# Altium integrated library Capacitor - Aluminium TH.IntLib: 4591 symbols (part 48 of 68)
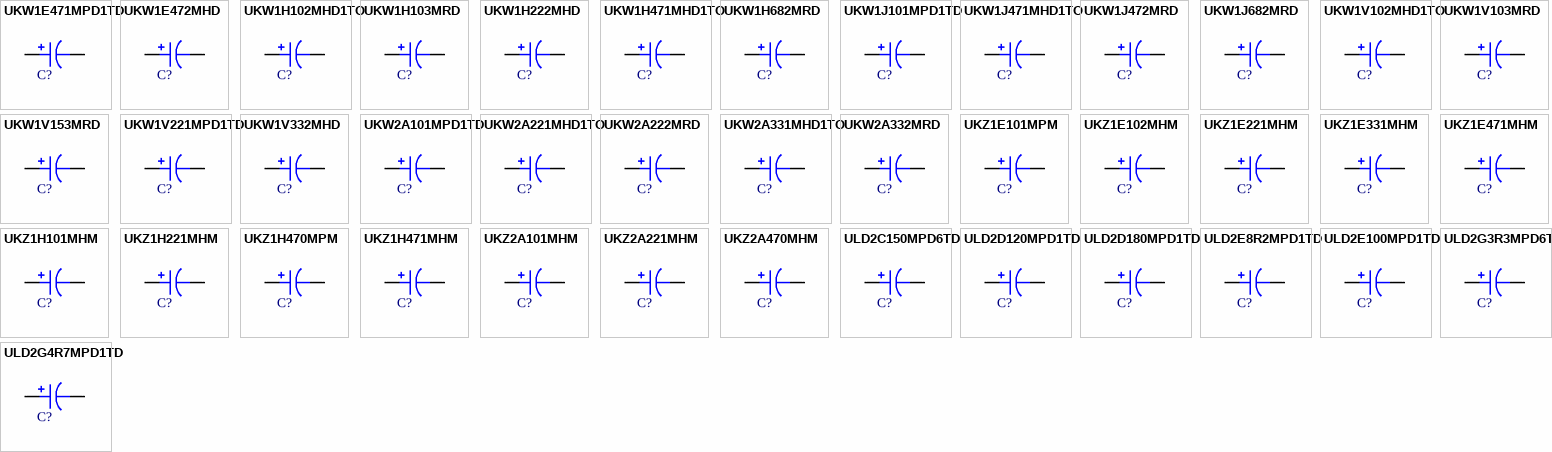
[diagram p161: symbols UKW1E471MPD1TD to ULD2G4R7MPD1TD]

## ULD2D180MPD1TD
designator C?, comment 18uF  (value not drawn)
CAP ALUM 18UF 20% 200V RADIAL; Part Number: ULD2D180MPD1TD; Manufacturer: Nichicon; TemperatureRange: -40C ~ 105C; Type: Polar; Ripple Current: 113mA @ 120Hz; Value: 18uF; PartId: 24674; Supplier 1: Digi-Key; Supplier Part Number 1: 493-13863-3-ND; ComponentLink1Description: Datasheet; ComponentLink1URL: http://nichicon-us.com/english/products/pdfs/e-uld.pdf; ComponentLink2Description: Digi-Key Listing; ComponentLink2URL: https://www.digikey.com/product-detail/en/nichicon/ULD2D180MPD1TD/493-13863-3-ND/4695189; Tolerance: 20%; Voltage: 200V; Price: 0.3108; Device Package: Radial, Can, 10mm
footprint CAP AL TH D10 L5 H14.5
pins: 1, 2

## ULD2E8R2MPD1TD
designator C?, comment 8.2uF  (value not drawn)
CAP ALUM 8.2UF 20% 250V RADIAL; Part Number: ULD2E8R2MPD1TD; Manufacturer: Nichicon; TemperatureRange: -40C ~ 105C; Type: Polar; Ripple Current: 76mA @ 120Hz; Value: 8.2uF; PartId: 24488; Supplier 1: Digi-Key; Supplier Part Number 1: 493-13871-1-ND; ComponentLink1Description: Datasheet; ComponentLink1URL: http://nichicon-us.com/english/products/pdfs/e-uld.pdf; ComponentLink2Description: Digi-Key Listing; ComponentLink2URL: https://www.digikey.com/product-detail/en/nichicon/ULD2E8R2MPD1TD/493-13871-1-ND/4695244; Tolerance: 20%; Voltage: 250V; Price: 0.78; Device Package: Radial, Can, 10mm
footprint CAP AL TH D10 L5 H12.5
pins: 1, 2

## ULD2E100MPD1TD
designator C?, comment 10uF  (value not drawn)
CAP ALUM 10UF 20% 250V RADIAL; Part Number: ULD2E100MPD1TD; Manufacturer: Nichicon; TemperatureRange: -40C ~ 105C; Type: Polar; Ripple Current: 90mA @ 120Hz; Value: 10uF; PartId: 24668; Supplier 1: Digi-Key; Supplier Part Number 1: 493-13872-3-ND; ComponentLink1Description: Datasheet; ComponentLink1URL: http://nichicon-us.com/english/products/pdfs/e-uld.pdf; ComponentLink2Description: Digi-Key Listing; ComponentLink2URL: https://www.digikey.com/product-detail/en/nichicon/ULD2E100MPD1TD/493-13872-3-ND/4695216; Tolerance: 20%; Voltage: 250V; Price: 0.2848; Device Package: Radial, Can, 10mm
footprint CAP AL TH D10 L5 H14.5
pins: 1, 2

## ULD2G3R3MPD6TD
designator C?, comment 3.3uF  (value not drawn)
CAP ALUM 3.3UF 20% 400V RADIAL; Part Number: ULD2G3R3MPD6TD; Manufacturer: Nichicon; TemperatureRange: -40C ~ 105C; Type: Polar; Ripple Current: 48mA @ 120Hz; Value: 3.3uF; PartId: 24448; Supplier 1: Digi-Key; Supplier Part Number 1: 493-13900-3-ND; ComponentLink1Description: Datasheet; ComponentLink1URL: http://nichicon-us.com/english/products/pdfs/e-uld.pdf; ComponentLink2Description: Digi-Key Listing; ComponentLink2URL: https://www.digikey.com/product-detail/en/nichicon/ULD2G3R3MPD6TD/493-13900-3-ND/4695273; Tolerance: 20%; Voltage: 400V; Price: 0.2646; Device Package: Radial, Can, 10mm
footprint CAP AL TH D10 L5 H12.5
pins: 1, 2

## ULD2G4R7MPD1TD
designator C?, comment 4.7uF  (value not drawn)
CAP ALUM 4.7UF 20% 400V RADIAL; Part Number: ULD2G4R7MPD1TD; Manufacturer: Nichicon; TemperatureRange: -40C ~ 105C; Type: Polar; Ripple Current: 61mA @ 120Hz; Value: 4.7uF; PartId: 24681; Supplier 1: Digi-Key; Supplier Part Number 1: 493-13883-3-ND; ComponentLink1Description: Datasheet; ComponentLink1URL: http://nichicon-us.com/english/products/pdfs/e-uld.pdf; ComponentLink2Description: Digi-Key Listing; ComponentLink2URL: https://www.digikey.com/product-detail/en/nichicon/ULD2G4R7MPD1TD/493-13883-3-ND/4695279; Tolerance: 20%; Voltage: 400V; Price: 0.3296; Device Package: Radial, Can, 10mm
footprint CAP AL TH D10 L5 H14.5
pins: 1, 2

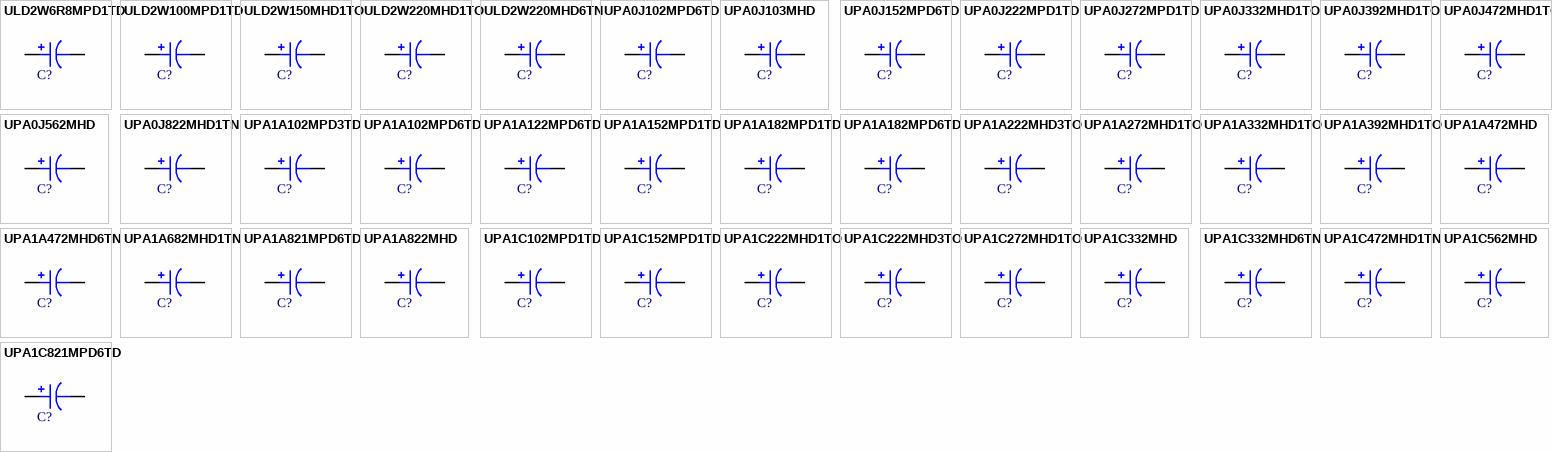
[diagram p79: symbols ULD2W6R8MPD1TD to UPA1C821MPD6TD]

## ULD2W6R8MPD1TD
designator C?, comment 6.8uF  (value not drawn)
CAP ALUM 6.8UF 20% 450V RADIAL; Part Number: ULD2W6R8MPD1TD; Manufacturer: Nichicon; TemperatureRange: -25C ~ 105C; Type: Polar; Ripple Current: 62mA @ 120Hz; Value: 6.8uF; PartId: 25484; Supplier 1: Digi-Key; Supplier Part Number 1: 493-13888-3-ND; ComponentLink1Description: Datasheet; ComponentLink1URL: http://nichicon-us.com/english/products/pdfs/e-uld.pdf; ComponentLink2Description: Digi-Key Listing; ComponentLink2URL: https://www.digikey.com/product-detail/en/nichicon/ULD2W6R8MPD1TD/493-13888-3-ND/4695318; Tolerance: 20%; Voltage: 450V; Price: 0.3364; Device Package: Radial, Can, 10mm
footprint CAP AL TH D10 L5 H22
pins: 1, 2

## ULD2W100MPD1TD
designator C?, comment 10uF  (value not drawn)
CAP ALUM 10UF 20% 450V RADIAL; Part Number: ULD2W100MPD1TD; Manufacturer: Nichicon; TemperatureRange: -25C ~ 105C; Type: Polar; Ripple Current: 92mA @ 120Hz; Value: 10uF; PartId: 25837; Supplier 1: Digi-Key; Supplier Part Number 1: 493-13890-3-ND; ComponentLink1Description: Datasheet; ComponentLink1URL: http://nichicon-us.com/english/products/pdfs/e-uld.pdf; ComponentLink2Description: Digi-Key Listing; ComponentLink2URL: https://www.digikey.com/product-detail/en/nichicon/ULD2W100MPD1TD/493-13890-3-ND/4695291; Tolerance: 20%; Voltage: 450V; Price: 0.4431; Device Package: Radial, Can, 10mm
footprint CAP AL TH D10 L5 H22
pins: 1, 2

## ULD2W150MHD1TO
designator C?, comment 15uF  (value not drawn)
CAP ALUM 15UF 20% 450V RADIAL; Part Number: ULD2W150MHD1TO; Manufacturer: Nichicon; TemperatureRange: -25C ~ 105C; Type: Polar; Ripple Current: 140mA @ 120Hz; Value: 15uF; PartId: 23508; Supplier 1: Digi-Key; Supplier Part Number 1: 493-13894-1-ND; ComponentLink1Description: Datasheet; ComponentLink1URL: http://nichicon-us.com/english/products/pdfs/e-uld.pdf; ComponentLink2Description: Digi-Key Listing; ComponentLink2URL: https://www.digikey.com/product-detail/en/nichicon/ULD2W150MHD1TO/493-13894-1-ND/4695295; Tolerance: 20%; Voltage: 450V; Price: 1.49; Device Package: Radial, Can, 12.5mm
footprint CAP AL TH D12.5 L5 H22
pins: 1, 2

## ULD2W220MHD1TO
designator C?, comment 22uF  (value not drawn)
CAP ALUM 22UF 20% 450V RADIAL; Part Number: ULD2W220MHD1TO; Manufacturer: Nichicon; TemperatureRange: -25C ~ 105C; Type: Polar; Ripple Current: 240mA @ 120Hz; Value: 22uF; PartId: 24175; Supplier 1: Digi-Key; Supplier Part Number 1: 493-13895-1-ND; ComponentLink1Description: Datasheet; ComponentLink1URL: http://nichicon-us.com/english/products/pdfs/e-uld.pdf; ComponentLink2Description: Digi-Key Listing; ComponentLink2URL: https://www.digikey.com/product-detail/en/nichicon/ULD2W220MHD1TO/493-13895-1-ND/4695298; Tolerance: 20%; Voltage: 450V; Price: 1.89; Device Package: Radial, Can, 12.5mm
footprint CAP AL TH D12.5 L5 H27
pins: 1, 2

## ULD2W220MHD6TN
designator C?, comment 22uF  (value not drawn)
CAP ALUM 22UF 20% 450V RADIAL; Part Number: ULD2W220MHD6TN; Manufacturer: Nichicon; TemperatureRange: -25C ~ 105C; Type: Polar; Ripple Current: 292mA @ 120Hz; Value: 22uF; PartId: 26407; Supplier 1: Digi-Key; Supplier Part Number 1: 493-13901-3-ND; ComponentLink1Description: Datasheet; ComponentLink1URL: http://nichicon-us.com/english/products/pdfs/e-uld.pdf; ComponentLink2Description: Digi-Key Listing; ComponentLink2URL: https://www.digikey.com/product-detail/en/nichicon/ULD2W220MHD6TN/493-13901-3-ND/4695300; Tolerance: 20%; Voltage: 450V; Price: 1.0036; Device Package: Radial, Can, 16mm
footprint CAP AL TH D16 L7.5 H22
pins: 1, 2

## UPA0J102MPD6TD
designator C?, comment 1000uF  (value not drawn)
CAP ALUM 1000UF 20% 6.3V RADIAL; Part Number: UPA0J102MPD6TD; Manufacturer: Nichicon; TemperatureRange: -55C ~ 105C; Type: Polar; Ripple Current: 675mA @ 120Hz; Impedance: 63 mOhm; Value: 1000uF; PartId: 24657; Supplier 1: Digi-Key; Supplier Part Number 1: 493-4845-3-ND; ComponentLink1Description: Datasheet; ComponentLink1URL: http://nichicon-us.com/english/products/pdfs/e-upa.pdf; ComponentLink2Description: Digi-Key Listing; ComponentLink2URL: https://www.digikey.com/product-detail/en/nichicon/UPA0J102MPD6TD/493-4845-3-ND/3129850; Tolerance: 20%; Voltage: 6.3V; Price: 0.2578; Device Package: Radial, Can, 10mm
footprint CAP AL TH D10 L5 H14.5
pins: 1, 2

## UPA0J103MHD
designator C?, comment 10000uF  (value not drawn)
CAP ALUM 10000UF 20% 6.3V RADIAL; Part Number: UPA0J103MHD; Manufacturer: Nichicon; TemperatureRange: -55C ~ 105C; Type: Polar; Ripple Current: 2.389A @ 120Hz; Impedance: 17 mOhm; Value: 10000uF; PartId: 27217; Supplier 1: Digi-Key; Supplier Part Number 1: 493-5424-ND; ComponentLink1Description: Datasheet; ComponentLink1URL: http://nichicon-us.com/english/products/pdfs/e-upa.pdf; ComponentLink2Description: Digi-Key Listing; ComponentLink2URL: https://www.digikey.com/product-detail/en/nichicon/UPA0J103MHD/493-5424-ND/3130429; Tolerance: 20%; Voltage: 6.3V; Price: 2.31; Device Package: Radial, Can, 16mm
footprint CAP AL TH D16 L7.5 H33.5
pins: 1, 2

## UPA0J152MPD6TD
designator C?, comment 1500uF  (value not drawn)
CAP ALUM 1500UF 20% 6.3V RADIAL; Part Number: UPA0J152MPD6TD; Manufacturer: Nichicon; TemperatureRange: -55C ~ 105C; Type: Polar; Ripple Current: 1.054A @ 120Hz; Impedance: 49 mOhm; Value: 1500uF; PartId: 25128; Supplier 1: Digi-Key; Supplier Part Number 1: 493-4851-3-ND; ComponentLink1Description: Datasheet; ComponentLink1URL: http://nichicon-us.com/english/products/pdfs/e-upa.pdf; ComponentLink2Description: Digi-Key Listing; ComponentLink2URL: https://www.digikey.com/product-detail/en/nichicon/UPA0J152MPD6TD/493-4851-3-ND/3129856; Tolerance: 20%; Voltage: 6.3V; Price: 0.3423; Device Package: Radial, Can, 10mm
footprint CAP AL TH D10 L5 H17.5
pins: 1, 2

## UPA0J222MPD1TD
designator C?, comment 2200uF  (value not drawn)
CAP ALUM 2200UF 20% 6.3V RADIAL; Part Number: UPA0J222MPD1TD; Manufacturer: Nichicon; TemperatureRange: -55C ~ 105C; Type: Polar; Ripple Current: 1.267A @ 120Hz; Impedance: 35 mOhm; Value: 2200uF; PartId: 25833; Supplier 1: Digi-Key; Supplier Part Number 1: 493-4852-3-ND; ComponentLink1Description: Datasheet; ComponentLink1URL: http://nichicon-us.com/english/products/pdfs/e-upa.pdf; ComponentLink2Description: Digi-Key Listing; ComponentLink2URL: https://www.digikey.com/product-detail/en/nichicon/UPA0J222MPD1TD/493-4852-3-ND/3129857; Tolerance: 20%; Voltage: 6.3V; Price: 0.4017; Device Package: Radial, Can, 10mm
footprint CAP AL TH D10 L5 H22
pins: 1, 2

## UPA0J272MPD1TD
designator C?, comment 2700uF  (value not drawn)
CAP ALUM 2700UF 20% 6.3V RADIAL; Part Number: UPA0J272MPD1TD; Manufacturer: Nichicon; TemperatureRange: -55C ~ 105C; Type: Polar; Ripple Current: 1.428A @ 120Hz; Impedance: 33 mOhm; Value: 2700uF; PartId: 26025; Supplier 1: Digi-Key; Supplier Part Number 1: 493-4854-3-ND; ComponentLink1Description: Datasheet; ComponentLink1URL: http://nichicon-us.com/english/products/pdfs/e-upa.pdf; ComponentLink2Description: Digi-Key Listing; ComponentLink2URL: https://www.digikey.com/product-detail/en/nichicon/UPA0J272MPD1TD/493-4854-3-ND/3129859; Tolerance: 20%; Voltage: 6.3V; Price: 0.4017; Device Package: Radial, Can, 10mm
footprint CAP AL TH D10 L5 H30
pins: 1, 2

## UPA0J332MHD1TO
designator C?, comment 3300uF  (value not drawn)
CAP ALUM 3300UF 20% 6.3V RADIAL; Part Number: UPA0J332MHD1TO; Manufacturer: Nichicon; TemperatureRange: -55C ~ 105C; Type: Polar; Ripple Current: 1.607A @ 120Hz; Impedance: 29 mOhm; Value: 3300uF; PartId: 23202; Supplier 1: Digi-Key; Supplier Part Number 1: 493-4855-3-ND; ComponentLink1Description: Datasheet; ComponentLink1URL: http://nichicon-us.com/english/products/pdfs/e-upa.pdf; ComponentLink2Description: Digi-Key Listing; ComponentLink2URL: https://www.digikey.com/product-detail/en/nichicon/UPA0J332MHD1TO/493-4855-3-ND/3129860; Tolerance: 20%; Voltage: 6.3V; Price: 0.4627; Device Package: Radial, Can, 12.5mm
footprint CAP AL TH D12.5 L5 H22
pins: 1, 2

## UPA0J392MHD1TO
designator C?, comment 3900uF  (value not drawn)
CAP ALUM 3900UF 20% 6.3V RADIAL; Part Number: UPA0J392MHD1TO; Manufacturer: Nichicon; TemperatureRange: -55C ~ 105C; Type: Polar; Ripple Current: 1.938A @ 120Hz; Impedance: 22 mOhm; Value: 3900uF; PartId: 23832; Supplier 1: Digi-Key; Supplier Part Number 1: 493-12385-2-ND; ComponentLink1Description: Datasheet; ComponentLink1URL: http://nichicon-us.com/english/products/pdfs/e-upa.pdf; ComponentLink2Description: Digi-Key Listing; ComponentLink2URL: https://www.digikey.com/product-detail/en/nichicon/UPA0J392MHD1TO/493-12385-2-ND/4321528; Tolerance: 20%; Voltage: 6.3V; Price: 0.4675; Device Package: Radial, Can, 12.5mm
footprint CAP AL TH D12.5 L5 H27
pins: 1, 2

## UPA0J472MHD1TO
designator C?, comment 4700uF  (value not drawn)
CAP ALUM 4700UF 20% 6.3V RADIAL; Part Number: UPA0J472MHD1TO; Manufacturer: Nichicon; TemperatureRange: -55C ~ 105C; Type: Polar; Ripple Current: 1.938A @ 120Hz; Impedance: 22 mOhm; Value: 4700uF; PartId: 23844; Supplier 1: Digi-Key; Supplier Part Number 1: 493-4856-3-ND; ComponentLink1Description: Datasheet; ComponentLink1URL: http://nichicon-us.com/english/products/pdfs/e-upa.pdf; ComponentLink2Description: Digi-Key Listing; ComponentLink2URL: https://www.digikey.com/product-detail/en/nichicon/UPA0J472MHD1TO/493-4856-3-ND/3129861; Tolerance: 20%; Voltage: 6.3V; Price: 0.5455; Device Package: Radial, Can, 12.5mm
footprint CAP AL TH D12.5 L5 H27
pins: 1, 2

## UPA0J562MHD
designator C?, comment 5600uF  (value not drawn)
CAP ALUM 5600UF 20% 6.3V RADIAL; Part Number: UPA0J562MHD; Manufacturer: Nichicon; TemperatureRange: -55C ~ 105C; Type: Polar; Ripple Current: 2.312A @ 120Hz; Impedance: 18 mOhm; Value: 5600uF; PartId: 24365; Supplier 1: Digi-Key; Supplier Part Number 1: 493-5425-ND; ComponentLink1Description: Datasheet; ComponentLink1URL: http://nichicon-us.com/english/products/pdfs/e-upa.pdf; ComponentLink2Description: Digi-Key Listing; ComponentLink2URL: https://www.digikey.com/product-detail/en/nichicon/UPA0J562MHD/493-5425-ND/3130430; Tolerance: 20%; Voltage: 6.3V; Price: 1.56; Device Package: Radial, Can, 12.5mm
footprint CAP AL TH D12.5 L5 H35.5
pins: 1, 2

## UPA0J822MHD1TN
designator C?, comment 8200uF  (value not drawn)
CAP ALUM 8200UF 20% 6.3V RADIAL; Part Number: UPA0J822MHD1TN; Manufacturer: Nichicon; TemperatureRange: -55C ~ 105C; Type: Polar; Ripple Current: 2.346A @ 120Hz; Impedance: 19 mOhm; Value: 8200uF; PartId: 26833; Supplier 1: Digi-Key; Supplier Part Number 1: 493-4860-3-ND; ComponentLink1Description: Datasheet; ComponentLink1URL: http://nichicon-us.com/english/products/pdfs/e-upa.pdf; ComponentLink2Description: Digi-Key Listing; ComponentLink2URL: https://www.digikey.com/product-detail/en/nichicon/UPA0J822MHD1TN/493-4860-3-ND/3129865; Tolerance: 20%; Voltage: 6.3V; Price: 0.9801; Device Package: Radial, Can, 16mm
footprint CAP AL TH D16 L7.5 H27
pins: 1, 2

## UPA1A102MPD3TD
designator C?, comment 1000uF  (value not drawn)
CAP ALUM 1000UF 20% 10V RADIAL; Part Number: UPA1A102MPD3TD; Manufacturer: Nichicon; TemperatureRange: -55C ~ 105C; Type: Polar; Ripple Current: 930mA @ 120Hz; Impedance: 49 mOhm; Value: 1000uF; PartId: 25107; Supplier 1: Digi-Key; Supplier Part Number 1: 493-4863-3-ND; ComponentLink1Description: Datasheet; ComponentLink1URL: http://nichicon-us.com/english/products/pdfs/e-upa.pdf; ComponentLink2Description: Digi-Key Listing; ComponentLink2URL: https://www.digikey.com/product-detail/en/nichicon/UPA1A102MPD3TD/493-4863-3-ND/3129868; Tolerance: 20%; Voltage: 10V; Price: 0.2945; Device Package: Radial, Can, 10mm
footprint CAP AL TH D10 L5 H17.5
pins: 1, 2

## UPA1A102MPD6TD
designator C?, comment 1000uF  (value not drawn)
CAP ALUM 1000UF 20% 10V RADIAL; Part Number: UPA1A102MPD6TD; Manufacturer: Nichicon; TemperatureRange: -55C ~ 105C; Type: Polar; Ripple Current: 675mA @ 120Hz; Impedance: 63 mOhm; Value: 1000uF; PartId: 24670; Supplier 1: Digi-Key; Supplier Part Number 1: 493-4864-3-ND; ComponentLink1Description: Datasheet; ComponentLink1URL: http://nichicon-us.com/english/products/pdfs/e-upa.pdf; ComponentLink2Description: Digi-Key Listing; ComponentLink2URL: https://www.digikey.com/product-detail/en/nichicon/UPA1A102MPD6TD/493-4864-3-ND/3129869; Tolerance: 20%; Voltage: 10V; Price: 0.2945; Device Package: Radial, Can, 10mm
footprint CAP AL TH D10 L5 H14.5
pins: 1, 2

## UPA1A122MPD6TD
designator C?, comment 1200uF  (value not drawn)
CAP ALUM 1200UF 20% 10V RADIAL; Part Number: UPA1A122MPD6TD; Manufacturer: Nichicon; TemperatureRange: -55C ~ 105C; Type: Polar; Ripple Current: 1.054A @ 120Hz; Impedance: 49 mOhm; Value: 1200uF; PartId: 25105; Supplier 1: Digi-Key; Supplier Part Number 1: 493-4866-3-ND; ComponentLink1Description: Datasheet; ComponentLink1URL: http://nichicon-us.com/english/products/pdfs/e-upa.pdf; ComponentLink2Description: Digi-Key Listing; ComponentLink2URL: https://www.digikey.com/product-detail/en/nichicon/UPA1A122MPD6TD/493-4866-3-ND/3129871; Tolerance: 20%; Voltage: 10V; Price: 0.2945; Device Package: Radial, Can, 10mm
footprint CAP AL TH D10 L5 H17.5
pins: 1, 2

## UPA1A152MPD1TD
designator C?, comment 1500uF  (value not drawn)
CAP ALUM 1500UF 20% 10V RADIAL; Part Number: UPA1A152MPD1TD; Manufacturer: Nichicon; TemperatureRange: -55C ~ 105C; Type: Polar; Ripple Current: 1.267A @ 120Hz; Impedance: 35 mOhm; Value: 1500uF; PartId: 25825; Supplier 1: Digi-Key; Supplier Part Number 1: 493-4867-3-ND; ComponentLink1Description: Datasheet; ComponentLink1URL: http://nichicon-us.com/english/products/pdfs/e-upa.pdf; ComponentLink2Description: Digi-Key Listing; ComponentLink2URL: https://www.digikey.com/product-detail/en/nichicon/UPA1A152MPD1TD/493-4867-3-ND/3129872; Tolerance: 20%; Voltage: 10V; Price: 0.3447; Device Package: Radial, Can, 10mm
footprint CAP AL TH D10 L5 H22
pins: 1, 2

## UPA1A182MPD1TD
designator C?, comment 1800uF  (value not drawn)
CAP ALUM 1800UF 20% 10V RADIAL; Part Number: UPA1A182MPD1TD; Manufacturer: Nichicon; TemperatureRange: -55C ~ 105C; Type: Polar; Ripple Current: 1.267A @ 120Hz; Impedance: 35 mOhm; Value: 1800uF; PartId: 25834; Supplier 1: Digi-Key; Supplier Part Number 1: 493-4868-3-ND; ComponentLink1Description: Datasheet; ComponentLink1URL: http://nichicon-us.com/english/products/pdfs/e-upa.pdf; ComponentLink2Description: Digi-Key Listing; ComponentLink2URL: https://www.digikey.com/product-detail/en/nichicon/UPA1A182MPD1TD/493-4868-3-ND/3129873; Tolerance: 20%; Voltage: 10V; Price: 0.4017; Device Package: Radial, Can, 10mm
footprint CAP AL TH D10 L5 H22
pins: 1, 2

## UPA1A182MPD6TD
designator C?, comment 1800uF  (value not drawn)
CAP ALUM 1800UF 20% 10V RADIAL; Part Number: UPA1A182MPD6TD; Manufacturer: Nichicon; TemperatureRange: -55C ~ 105C; Type: Polar; Ripple Current: 1.428A @ 120Hz; Impedance: 33 mOhm; Value: 1800uF; PartId: 26039; Supplier 1: Digi-Key; Supplier Part Number 1: 493-4869-3-ND; ComponentLink1Description: Datasheet; ComponentLink1URL: http://nichicon-us.com/english/products/pdfs/e-upa.pdf; ComponentLink2Description: Digi-Key Listing; ComponentLink2URL: https://www.digikey.com/product-detail/en/nichicon/UPA1A182MPD6TD/493-4869-3-ND/3129874; Tolerance: 20%; Voltage: 10V; Price: 0.4989; Device Package: Radial, Can, 10mm
footprint CAP AL TH D10 L5 H30
pins: 1, 2

## UPA1A222MHD3TO
designator C?, comment 2200uF  (value not drawn)
CAP ALUM 2200UF 20% 10V RADIAL; Part Number: UPA1A222MHD3TO; Manufacturer: Nichicon; TemperatureRange: -55C ~ 105C; Type: Polar; Ripple Current: 1.607A @ 120Hz; Impedance: 29 mOhm; Value: 2200uF; PartId: 23479; Supplier 1: Digi-Key; Supplier Part Number 1: 493-12386-1-ND; ComponentLink1Description: Datasheet; ComponentLink1URL: http://nichicon-us.com/english/products/pdfs/e-upa.pdf; ComponentLink2Description: Digi-Key Listing; ComponentLink2URL: https://www.digikey.com/product-detail/en/nichicon/UPA1A222MHD3TO/493-12386-1-ND/4319382; Tolerance: 20%; Voltage: 10V; Price: 1.13; Device Package: Radial, Can, 12.5mm
footprint CAP AL TH D12.5 L5 H22
pins: 1, 2

## UPA1A272MHD1TO
designator C?, comment 2700uF  (value not drawn)
CAP ALUM 2700UF 20% 10V RADIAL; Part Number: UPA1A272MHD1TO; Manufacturer: Nichicon; TemperatureRange: -55C ~ 105C; Type: Polar; Ripple Current: 1.607A @ 120Hz; Impedance: 29 mOhm; Value: 2700uF; PartId: 23484; Supplier 1: Digi-Key; Supplier Part Number 1: 493-4871-1-ND; ComponentLink1Description: Datasheet; ComponentLink1URL: http://nichicon-us.com/english/products/pdfs/e-upa.pdf; ComponentLink2Description: Digi-Key Listing; ComponentLink2URL: https://www.digikey.com/product-detail/en/nichicon/UPA1A272MHD1TO/493-4871-1-ND/3129208; Tolerance: 20%; Voltage: 10V; Price: 1.16; Device Package: Radial, Can, 12.5mm
footprint CAP AL TH D12.5 L5 H22
pins: 1, 2

## UPA1A332MHD1TO
designator C?, comment 3300uF  (value not drawn)
CAP ALUM 3300UF 20% 10V RADIAL; Part Number: UPA1A332MHD1TO; Manufacturer: Nichicon; TemperatureRange: -55C ~ 105C; Type: Polar; Ripple Current: 1.938A @ 120Hz; Impedance: 22 mOhm; Value: 3300uF; PartId: 24106; Supplier 1: Digi-Key; Supplier Part Number 1: 493-12382-1-ND; ComponentLink1Description: Datasheet; ComponentLink1URL: http://nichicon-us.com/english/products/pdfs/e-upa.pdf; ComponentLink2Description: Digi-Key Listing; ComponentLink2URL: https://www.digikey.com/product-detail/en/nichicon/UPA1A332MHD1TO/493-12382-1-ND/4319384; Tolerance: 20%; Voltage: 10V; Price: 1.34; Device Package: Radial, Can, 12.5mm
footprint CAP AL TH D12.5 L5 H27
pins: 1, 2

## UPA1A392MHD1TO
designator C?, comment 3900uF  (value not drawn)
CAP ALUM 3900UF 20% 10V RADIAL; Part Number: UPA1A392MHD1TO; Manufacturer: Nichicon; TemperatureRange: -55C ~ 105C; Type: Polar; Ripple Current: 1.938A @ 120Hz; Impedance: 22 mOhm; Value: 3900uF; PartId: 24110; Supplier 1: Digi-Key; Supplier Part Number 1: 493-4872-1-ND; ComponentLink1Description: Datasheet; ComponentLink1URL: http://nichicon-us.com/english/products/pdfs/e-upa.pdf; ComponentLink2Description: Digi-Key Listing; ComponentLink2URL: https://www.digikey.com/product-detail/en/nichicon/UPA1A392MHD1TO/493-4872-1-ND/3129209; Tolerance: 20%; Voltage: 10V; Price: 1.37; Device Package: Radial, Can, 12.5mm
footprint CAP AL TH D12.5 L5 H27
pins: 1, 2

## UPA1A472MHD
designator C?, comment 4700uF  (value not drawn)
CAP ALUM 4700UF 20% 10V RADIAL; Part Number: UPA1A472MHD; Manufacturer: Nichicon; TemperatureRange: -55C ~ 105C; Type: Polar; Ripple Current: 2.312A @ 120Hz; Impedance: 18 mOhm; Value: 4700uF; PartId: 24362; Supplier 1: Digi-Key; Supplier Part Number 1: 493-5427-ND; ComponentLink1Description: Datasheet; ComponentLink1URL: http://nichicon-us.com/english/products/pdfs/e-upa.pdf; ComponentLink2Description: Digi-Key Listing; ComponentLink2URL: https://www.digikey.com/product-detail/en/nichicon/UPA1A472MHD/493-5427-ND/3130432; Tolerance: 20%; Voltage: 10V; Price: 1.56; Device Package: Radial, Can, 12.5mm
footprint CAP AL TH D12.5 L5 H35.5
pins: 1, 2

## UPA1A472MHD6TN
designator C?, comment 4700uF  (value not drawn)
CAP ALUM 4700UF 20% 10V RADIAL; Part Number: UPA1A472MHD6TN; Manufacturer: Nichicon; TemperatureRange: -55C ~ 105C; Type: Polar; Ripple Current: 1.981A @ 120Hz; Impedance: 26 mOhm; Value: 4700uF; PartId: 26402; Supplier 1: Digi-Key; Supplier Part Number 1: 493-4874-3-ND; ComponentLink1Description: Datasheet; ComponentLink1URL: http://nichicon-us.com/english/products/pdfs/e-upa.pdf; ComponentLink2Description: Digi-Key Listing; ComponentLink2URL: https://www.digikey.com/product-detail/en/nichicon/UPA1A472MHD6TN/493-4874-3-ND/3129879; Tolerance: 20%; Voltage: 10V; Price: 0.943; Device Package: Radial, Can, 16mm
footprint CAP AL TH D16 L7.5 H22
pins: 1, 2

## UPA1A682MHD1TN
designator C?, comment 6800uF  (value not drawn)
CAP ALUM 6800UF 20% 10V RADIAL; Part Number: UPA1A682MHD1TN; Manufacturer: Nichicon; TemperatureRange: -55C ~ 105C; Type: Polar; Ripple Current: 2.346A @ 120Hz; Impedance: 19 mOhm; Value: 6800uF; PartId: 26823; Supplier 1: Digi-Key; Supplier Part Number 1: 493-4876-3-ND; ComponentLink1Description: Datasheet; ComponentLink1URL: http://nichicon-us.com/english/products/pdfs/e-upa.pdf; ComponentLink2Description: Digi-Key Listing; ComponentLink2URL: https://www.digikey.com/product-detail/en/nichicon/UPA1A682MHD1TN/493-4876-3-ND/3129881; Tolerance: 20%; Voltage: 10V; Price: 0.9794; Device Package: Radial, Can, 16mm
footprint CAP AL TH D16 L7.5 H27
pins: 1, 2

## UPA1A821MPD6TD
designator C?, comment 820uF  (value not drawn)
CAP ALUM 820UF 20% 10V RADIAL; Part Number: UPA1A821MPD6TD; Manufacturer: Nichicon; TemperatureRange: -55C ~ 105C; Type: Polar; Ripple Current: 675mA @ 120Hz; Impedance: 63 mOhm; Value: 820uF; PartId: 24665; Supplier 1: Digi-Key; Supplier Part Number 1: 493-4878-3-ND; ComponentLink1Description: Datasheet; ComponentLink1URL: http://nichicon-us.com/english/products/pdfs/e-upa.pdf; ComponentLink2Description: Digi-Key Listing; ComponentLink2URL: https://www.digikey.com/product-detail/en/nichicon/UPA1A821MPD6TD/493-4878-3-ND/3129883; Tolerance: 20%; Voltage: 10V; Price: 0.2751; Device Package: Radial, Can, 10mm
footprint CAP AL TH D10 L5 H14.5
pins: 1, 2

## UPA1A822MHD
designator C?, comment 8200uF  (value not drawn)
CAP ALUM 8200UF 20% 10V RADIAL; Part Number: UPA1A822MHD; Manufacturer: Nichicon; TemperatureRange: -55C ~ 105C; Type: Polar; Ripple Current: 2.389A @ 120Hz; Impedance: 17 mOhm; Value: 8200uF; PartId: 27216; Supplier 1: Digi-Key; Supplier Part Number 1: 493-5429-ND; ComponentLink1Description: Datasheet; ComponentLink1URL: http://nichicon-us.com/english/products/pdfs/e-upa.pdf; ComponentLink2Description: Digi-Key Listing; ComponentLink2URL: https://www.digikey.com/product-detail/en/nichicon/UPA1A822MHD/493-5429-ND/3130434; Tolerance: 20%; Voltage: 10V; Price: 2.31; Device Package: Radial, Can, 16mm
footprint CAP AL TH D16 L7.5 H33.5
pins: 1, 2

## UPA1C102MPD1TD
designator C?, comment 1000uF  (value not drawn)
CAP ALUM 1000UF 20% 16V RADIAL; Part Number: UPA1C102MPD1TD; Manufacturer: Nichicon; TemperatureRange: -55C ~ 105C; Type: Polar; Ripple Current: 930mA @ 120Hz; Impedance: 49 mOhm; Value: 1000uF; PartId: 25129; Supplier 1: Digi-Key; Supplier Part Number 1: 493-4880-3-ND; ComponentLink1Description: Datasheet; ComponentLink1URL: http://nichicon-us.com/english/products/pdfs/e-upa.pdf; ComponentLink2Description: Digi-Key Listing; ComponentLink2URL: https://www.digikey.com/product-detail/en/nichicon/UPA1C102MPD1TD/493-4880-3-ND/3129885; Tolerance: 20%; Voltage: 16V; Price: 0.3447; Device Package: Radial, Can, 10mm
footprint CAP AL TH D10 L5 H17.5
pins: 1, 2

## UPA1C152MPD1TD
designator C?, comment 1500uF  (value not drawn)
CAP ALUM 1500UF 20% 16V RADIAL; Part Number: UPA1C152MPD1TD; Manufacturer: Nichicon; TemperatureRange: -55C ~ 105C; Type: Polar; Ripple Current: 1.428A @ 120Hz; Impedance: 33 mOhm; Value: 1500uF; PartId: 26024; Supplier 1: Digi-Key; Supplier Part Number 1: 493-4883-3-ND; ComponentLink1Description: Datasheet; ComponentLink1URL: http://nichicon-us.com/english/products/pdfs/e-upa.pdf; ComponentLink2Description: Digi-Key Listing; ComponentLink2URL: https://www.digikey.com/product-detail/en/nichicon/UPA1C152MPD1TD/493-4883-3-ND/3129888; Tolerance: 20%; Voltage: 16V; Price: 0.4017; Device Package: Radial, Can, 10mm
footprint CAP AL TH D10 L5 H30
pins: 1, 2

## UPA1C222MHD1TO
designator C?, comment 2200uF  (value not drawn)
CAP ALUM 2200UF 20% 16V RADIAL; Part Number: UPA1C222MHD1TO; Manufacturer: Nichicon; TemperatureRange: -55C ~ 105C; Type: Polar; Ripple Current: 1.607A @ 120Hz; Impedance: 29 mOhm; Value: 2200uF; PartId: 23206; Supplier 1: Digi-Key; Supplier Part Number 1: 493-4884-3-ND; ComponentLink1Description: Datasheet; ComponentLink1URL: http://nichicon-us.com/english/products/pdfs/e-upa.pdf; ComponentLink2Description: Digi-Key Listing; ComponentLink2URL: https://www.digikey.com/product-detail/en/nichicon/UPA1C222MHD1TO/493-4884-3-ND/3129889; Tolerance: 20%; Voltage: 16V; Price: 0.5358; Device Package: Radial, Can, 12.5mm
footprint CAP AL TH D12.5 L5 H22
pins: 1, 2

## UPA1C222MHD3TO
designator C?, comment 2200uF  (value not drawn)
CAP ALUM 2200UF 20% 16V RADIAL; Part Number: UPA1C222MHD3TO; Manufacturer: Nichicon; TemperatureRange: -55C ~ 105C; Type: Polar; Ripple Current: 1.938A @ 120Hz; Impedance: 22 mOhm; Value: 2200uF; PartId: 23814; Supplier 1: Digi-Key; Supplier Part Number 1: 493-12388-2-ND; ComponentLink1Description: Datasheet; ComponentLink1URL: http://nichicon-us.com/english/products/pdfs/e-upa.pdf; ComponentLink2Description: Digi-Key Listing; ComponentLink2URL: https://www.digikey.com/product-detail/en/nichicon/UPA1C222MHD3TO/493-12388-2-ND/4321531; Tolerance: 20%; Voltage: 16V; Price: 0.4264; Device Package: Radial, Can, 12.5mm
footprint CAP AL TH D12.5 L5 H27
pins: 1, 2

## UPA1C272MHD1TO
designator C?, comment 2700uF  (value not drawn)
CAP ALUM 2700UF 20% 16V RADIAL; Part Number: UPA1C272MHD1TO; Manufacturer: Nichicon; TemperatureRange: -55C ~ 105C; Type: Polar; Ripple Current: 1.938A @ 120Hz; Impedance: 22 mOhm; Value: 2700uF; PartId: 23842; Supplier 1: Digi-Key; Supplier Part Number 1: 493-4886-3-ND; ComponentLink1Description: Datasheet; ComponentLink1URL: http://nichicon-us.com/english/products/pdfs/e-upa.pdf; ComponentLink2Description: Digi-Key Listing; ComponentLink2URL: https://www.digikey.com/product-detail/en/nichicon/UPA1C272MHD1TO/493-4886-3-ND/3129891; Tolerance: 20%; Voltage: 16V; Price: 0.5358; Device Package: Radial, Can, 12.5mm
footprint CAP AL TH D12.5 L5 H27
pins: 1, 2

## UPA1C332MHD
designator C?, comment 3300uF  (value not drawn)
CAP ALUM 3300UF 20% 16V RADIAL; Part Number: UPA1C332MHD; Manufacturer: Nichicon; TemperatureRange: -55C ~ 105C; Type: Polar; Ripple Current: 2.312A @ 120Hz; Impedance: 18 mOhm; Value: 3300uF; PartId: 24363; Supplier 1: Digi-Key; Supplier Part Number 1: 493-5430-ND; ComponentLink1Description: Datasheet; ComponentLink1URL: http://nichicon-us.com/english/products/pdfs/e-upa.pdf; ComponentLink2Description: Digi-Key Listing; ComponentLink2URL: https://www.digikey.com/product-detail/en/nichicon/UPA1C332MHD/493-5430-ND/3130435; Tolerance: 20%; Voltage: 16V; Price: 1.56; Device Package: Radial, Can, 12.5mm
footprint CAP AL TH D12.5 L5 H35.5
pins: 1, 2

## UPA1C332MHD6TN
designator C?, comment 3300uF  (value not drawn)
CAP ALUM 3300UF 20% 16V RADIAL; Part Number: UPA1C332MHD6TN; Manufacturer: Nichicon; TemperatureRange: -55C ~ 105C; Type: Polar; Ripple Current: 1.981A @ 120Hz; Impedance: 26 mOhm; Value: 3300uF; PartId: 26401; Supplier 1: Digi-Key; Supplier Part Number 1: 493-4888-3-ND; ComponentLink1Description: Datasheet; ComponentLink1URL: http://nichicon-us.com/english/products/pdfs/e-upa.pdf; ComponentLink2Description: Digi-Key Listing; ComponentLink2URL: https://www.digikey.com/product-detail/en/nichicon/UPA1C332MHD6TN/493-4888-3-ND/3129893; Tolerance: 20%; Voltage: 16V; Price: 0.9298; Device Package: Radial, Can, 16mm
footprint CAP AL TH D16 L7.5 H22
pins: 1, 2

## UPA1C472MHD1TN
designator C?, comment 4700uF  (value not drawn)
CAP ALUM 4700UF 20% 16V RADIAL; Part Number: UPA1C472MHD1TN; Manufacturer: Nichicon; TemperatureRange: -55C ~ 105C; Type: Polar; Ripple Current: 2.346A @ 120Hz; Impedance: 19 mOhm; Value: 4700uF; PartId: 26834; Supplier 1: Digi-Key; Supplier Part Number 1: 493-4890-3-ND; ComponentLink1Description: Datasheet; ComponentLink1URL: http://nichicon-us.com/english/products/pdfs/e-upa.pdf; ComponentLink2Description: Digi-Key Listing; ComponentLink2URL: https://www.digikey.com/product-detail/en/nichicon/UPA1C472MHD1TN/493-4890-3-ND/3129895; Tolerance: 20%; Voltage: 16V; Price: 0.9801; Device Package: Radial, Can, 16mm
footprint CAP AL TH D16 L7.5 H27
pins: 1, 2

## UPA1C562MHD
designator C?, comment 5600uF  (value not drawn)
CAP ALUM 5600UF 20% 16V RADIAL; Part Number: UPA1C562MHD; Manufacturer: Nichicon; TemperatureRange: -55C ~ 105C; Type: Polar; Ripple Current: 2.389A @ 120Hz; Impedance: 17 mOhm; Value: 5600uF; PartId: 27219; Supplier 1: Digi-Key; Supplier Part Number 1: 493-5432-ND; ComponentLink1Description: Datasheet; ComponentLink1URL: http://nichicon-us.com/english/products/pdfs/e-upa.pdf; ComponentLink2Description: Digi-Key Listing; ComponentLink2URL: https://www.digikey.com/product-detail/en/nichicon/UPA1C562MHD/493-5432-ND/3130437; Tolerance: 20%; Voltage: 16V; Price: 2.31; Device Package: Radial, Can, 16mm
footprint CAP AL TH D16 L7.5 H33.5
pins: 1, 2

## UPA1C821MPD6TD
designator C?, comment 820uF  (value not drawn)
CAP ALUM 820UF 20% 16V RADIAL; Part Number: UPA1C821MPD6TD; Manufacturer: Nichicon; TemperatureRange: -55C ~ 105C; Type: Polar; Ripple Current: 930mA @ 120Hz; Impedance: 49 mOhm; Value: 820uF; PartId: 25118; Supplier 1: Digi-Key; Supplier Part Number 1: 493-4896-3-ND; ComponentLink1Description: Datasheet; ComponentLink1URL: http://nichicon-us.com/english/products/pdfs/e-upa.pdf; ComponentLink2Description: Digi-Key Listing; ComponentLink2URL: https://www.digikey.com/product-detail/en/nichicon/UPA1C821MPD6TD/493-4896-3-ND/3129901; Tolerance: 20%; Voltage: 16V; Price: 0.323; Device Package: Radial, Can, 10mm
footprint CAP AL TH D10 L5 H17.5
pins: 1, 2

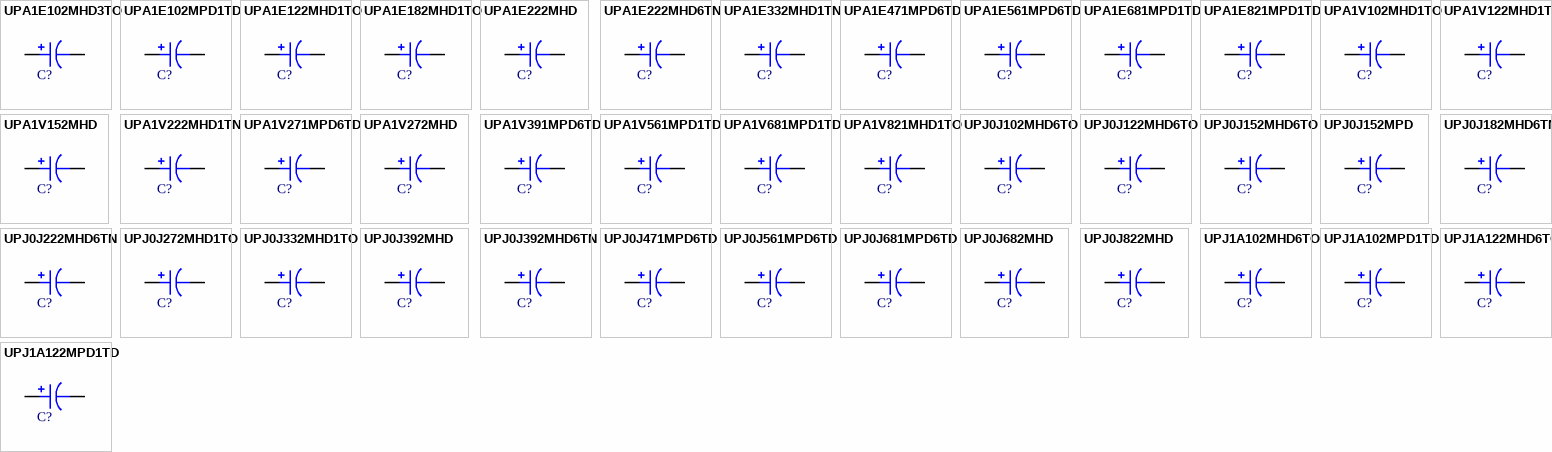
[diagram p80: symbols UPA1E102MHD3TO to UPJ1A122MPD1TD]

## UPA1E102MHD3TO
designator C?, comment 1000uF  (value not drawn)
CAP ALUM 1000UF 20% 25V RADIAL; Part Number: UPA1E102MHD3TO; Manufacturer: Nichicon; TemperatureRange: -55C ~ 105C; Type: Polar; Ripple Current: 1.418A @ 120Hz; Value: 1000uF; PartId: 23201; Supplier 1: Digi-Key; Supplier Part Number 1: 493-4897-3-ND; ComponentLink1Description: Datasheet; ComponentLink1URL: http://nichicon-us.com/english/products/pdfs/e-upa.pdf; ComponentLink2Description: Digi-Key Listing; ComponentLink2URL: https://www.digikey.com/product-detail/en/nichicon/UPA1E102MHD3TO/493-4897-3-ND/3129902; Tolerance: 20%; Voltage: 25V; Price: 0.4627; Device Package: Radial, Can, 12.5mm
footprint CAP AL TH D12.5 L5 H22
pins: 1, 2

## UPA1E102MPD1TD
designator C?, comment 1000uF  (value not drawn)
CAP ALUM 1000UF 20% 25V RADIAL; Part Number: UPA1E102MPD1TD; Manufacturer: Nichicon; TemperatureRange: -55C ~ 105C; Type: Polar; Ripple Current: 1.26A @ 120Hz; Impedance: 33 mOhm; Value: 1000uF; PartId: 26035; Supplier 1: Digi-Key; Supplier Part Number 1: 493-4898-3-ND; ComponentLink1Description: Datasheet; ComponentLink1URL: http://nichicon-us.com/english/products/pdfs/e-upa.pdf; ComponentLink2Description: Digi-Key Listing; ComponentLink2URL: https://www.digikey.com/product-detail/en/nichicon/UPA1E102MPD1TD/493-4898-3-ND/3129903; Tolerance: 20%; Voltage: 25V; Price: 0.4627; Device Package: Radial, Can, 10mm
footprint CAP AL TH D10 L5 H30
pins: 1, 2

## UPA1E122MHD1TO
designator C?, comment 1200uF  (value not drawn)
CAP ALUM 1200UF 20% 25V RADIAL; Part Number: UPA1E122MHD1TO; Manufacturer: Nichicon; TemperatureRange: -55C ~ 105C; Type: Polar; Ripple Current: 1.607A @ 120Hz; Impedance: 29 mOhm; Value: 1200uF; PartId: 23485; Supplier 1: Digi-Key; Supplier Part Number 1: 493-4899-1-ND; ComponentLink1Description: Datasheet; ComponentLink1URL: http://nichicon-us.com/english/products/pdfs/e-upa.pdf; ComponentLink2Description: Digi-Key Listing; ComponentLink2URL: https://www.digikey.com/product-detail/en/nichicon/UPA1E122MHD1TO/493-4899-1-ND/3129236; Tolerance: 20%; Voltage: 25V; Price: 1.16; Device Package: Radial, Can, 12.5mm
footprint CAP AL TH D12.5 L5 H22
pins: 1, 2

## UPA1E182MHD1TO
designator C?, comment 1800uF  (value not drawn)
CAP ALUM 1800UF 20% 25V RADIAL; Part Number: UPA1E182MHD1TO; Manufacturer: Nichicon; TemperatureRange: -55C ~ 105C; Type: Polar; Ripple Current: 1.938A @ 120Hz; Impedance: 22 mOhm; Value: 1800uF; PartId: 23843; Supplier 1: Digi-Key; Supplier Part Number 1: 493-4900-3-ND; ComponentLink1Description: Datasheet; ComponentLink1URL: http://nichicon-us.com/english/products/pdfs/e-upa.pdf; ComponentLink2Description: Digi-Key Listing; ComponentLink2URL: https://www.digikey.com/product-detail/en/nichicon/UPA1E182MHD1TO/493-4900-3-ND/3129905; Tolerance: 20%; Voltage: 25V; Price: 0.5358; Device Package: Radial, Can, 12.5mm
footprint CAP AL TH D12.5 L5 H27
pins: 1, 2

## UPA1E222MHD
designator C?, comment 2200uF  (value not drawn)
CAP ALUM 2200UF 20% 25V RADIAL; Part Number: UPA1E222MHD; Manufacturer: Nichicon; TemperatureRange: -55C ~ 105C; Type: Polar; Ripple Current: 2.312A @ 120Hz; Impedance: 18 mOhm; Value: 2200uF; PartId: 24366; Supplier 1: Digi-Key; Supplier Part Number 1: 493-5433-ND; ComponentLink1Description: Datasheet; ComponentLink1URL: http://nichicon-us.com/english/products/pdfs/e-upa.pdf; ComponentLink2Description: Digi-Key Listing; ComponentLink2URL: https://www.digikey.com/product-detail/en/nichicon/UPA1E222MHD/493-5433-ND/3130438; Tolerance: 20%; Voltage: 25V; Price: 1.56; Device Package: Radial, Can, 12.5mm
footprint CAP AL TH D12.5 L5 H35.5
pins: 1, 2

## UPA1E222MHD6TN
designator C?, comment 2200uF  (value not drawn)
CAP ALUM 2200UF 20% 25V RADIAL; Part Number: UPA1E222MHD6TN; Manufacturer: Nichicon; TemperatureRange: -55C ~ 105C; Type: Polar; Ripple Current: 1.981A @ 120Hz; Impedance: 26 mOhm; Value: 2200uF; PartId: 26400; Supplier 1: Digi-Key; Supplier Part Number 1: 493-4901-3-ND; ComponentLink1Description: Datasheet; ComponentLink1URL: http://nichicon-us.com/english/products/pdfs/e-upa.pdf; ComponentLink2Description: Digi-Key Listing; ComponentLink2URL: https://www.digikey.com/product-detail/en/nichicon/UPA1E222MHD6TN/493-4901-3-ND/3129906; Tolerance: 20%; Voltage: 25V; Price: 0.9222; Device Package: Radial, Can, 16mm
footprint CAP AL TH D16 L7.5 H22
pins: 1, 2

## UPA1E332MHD1TN
designator C?, comment 3300uF  (value not drawn)
CAP ALUM 3300UF 20% 25V RADIAL; Part Number: UPA1E332MHD1TN; Manufacturer: Nichicon; TemperatureRange: -55C ~ 105C; Type: Polar; Ripple Current: 2.346A @ 120Hz; Impedance: 19 mOhm; Value: 3300uF; PartId: 26832; Supplier 1: Digi-Key; Supplier Part Number 1: 493-4904-3-ND; ComponentLink1Description: Datasheet; ComponentLink1URL: http://nichicon-us.com/english/products/pdfs/e-upa.pdf; ComponentLink2Description: Digi-Key Listing; ComponentLink2URL: https://www.digikey.com/product-detail/en/nichicon/UPA1E332MHD1TN/493-4904-3-ND/3129909; Tolerance: 20%; Voltage: 25V; Price: 0.9801; Device Package: Radial, Can, 16mm
footprint CAP AL TH D16 L7.5 H27
pins: 1, 2

## UPA1E471MPD6TD
designator C?, comment 470uF  (value not drawn)
CAP ALUM 470UF 20% 25V RADIAL; Part Number: UPA1E471MPD6TD; Manufacturer: Nichicon; TemperatureRange: -55C ~ 105C; Type: Polar; Ripple Current: 675mA @ 120Hz; Impedance: 63 mOhm; Value: 470uF; PartId: 24658; Supplier 1: Digi-Key; Supplier Part Number 1: 493-4907-3-ND; ComponentLink1Description: Datasheet; ComponentLink1URL: http://nichicon-us.com/english/products/pdfs/e-upa.pdf; ComponentLink2Description: Digi-Key Listing; ComponentLink2URL: https://www.digikey.com/product-detail/en/nichicon/UPA1E471MPD6TD/493-4907-3-ND/3129912; Tolerance: 20%; Voltage: 25V; Price: 0.2587; Device Package: Radial, Can, 10mm
footprint CAP AL TH D10 L5 H14.5
pins: 1, 2

## UPA1E561MPD6TD
designator C?, comment 560uF  (value not drawn)
CAP ALUM 560UF 20% 25V RADIAL; Part Number: UPA1E561MPD6TD; Manufacturer: Nichicon; TemperatureRange: -55C ~ 105C; Type: Polar; Ripple Current: 930mA @ 120Hz; Impedance: 49 mOhm; Value: 560uF; PartId: 25119; Supplier 1: Digi-Key; Supplier Part Number 1: 493-4910-3-ND; ComponentLink1Description: Datasheet; ComponentLink1URL: http://nichicon-us.com/english/products/pdfs/e-upa.pdf; ComponentLink2Description: Digi-Key Listing; ComponentLink2URL: https://www.digikey.com/product-detail/en/nichicon/UPA1E561MPD6TD/493-4910-3-ND/3129915; Tolerance: 20%; Voltage: 25V; Price: 0.3241; Device Package: Radial, Can, 10mm
footprint CAP AL TH D10 L5 H17.5
pins: 1, 2

## UPA1E681MPD1TD
designator C?, comment 680uF  (value not drawn)
CAP ALUM 680UF 20% 25V RADIAL; Part Number: UPA1E681MPD1TD; Manufacturer: Nichicon; TemperatureRange: -55C ~ 105C; Type: Polar; Ripple Current: 930mA @ 120Hz; Impedance: 49 mOhm; Value: 680uF; PartId: 25106; Supplier 1: Digi-Key; Supplier Part Number 1: 493-4911-3-ND; ComponentLink1Description: Datasheet; ComponentLink1URL: http://nichicon-us.com/english/products/pdfs/e-upa.pdf; ComponentLink2Description: Digi-Key Listing; ComponentLink2URL: https://www.digikey.com/product-detail/en/nichicon/UPA1E681MPD1TD/493-4911-3-ND/3129916; Tolerance: 20%; Voltage: 25V; Price: 0.2945; Device Package: Radial, Can, 10mm
footprint CAP AL TH D10 L5 H17.5
pins: 1, 2

## UPA1E821MPD1TD
designator C?, comment 820uF  (value not drawn)
CAP ALUM 820UF 20% 25V RADIAL; Part Number: UPA1E821MPD1TD; Manufacturer: Nichicon; TemperatureRange: -55C ~ 105C; Type: Polar; Ripple Current: 1.118A @ 120Hz; Impedance: 35 mOhm; Value: 820uF; PartId: 25827; Supplier 1: Digi-Key; Supplier Part Number 1: 493-4912-3-ND; ComponentLink1Description: Datasheet; ComponentLink1URL: http://nichicon-us.com/english/products/pdfs/e-upa.pdf; ComponentLink2Description: Digi-Key Listing; ComponentLink2URL: https://www.digikey.com/product-detail/en/nichicon/UPA1E821MPD1TD/493-4912-3-ND/3129917; Tolerance: 20%; Voltage: 25V; Price: 0.3447; Device Package: Radial, Can, 10mm
footprint CAP AL TH D10 L5 H22
pins: 1, 2

## UPA1V102MHD1TO
designator C?, comment 1000uF  (value not drawn)
CAP ALUM 1000UF 20% 35V RADIAL; Part Number: UPA1V102MHD1TO; Manufacturer: Nichicon; TemperatureRange: -55C ~ 105C; Type: Polar; Ripple Current: 1.418A @ 120Hz; Impedance: 29 mOhm; Value: 1000uF; PartId: 23205; Supplier 1: Digi-Key; Supplier Part Number 1: 493-4913-3-ND; ComponentLink1Description: Datasheet; ComponentLink1URL: http://nichicon-us.com/english/products/pdfs/e-upa.pdf; ComponentLink2Description: Digi-Key Listing; ComponentLink2URL: https://www.digikey.com/product-detail/en/nichicon/UPA1V102MHD1TO/493-4913-3-ND/3129918; Tolerance: 20%; Voltage: 35V; Price: 0.4945; Device Package: Radial, Can, 12.5mm
footprint CAP AL TH D12.5 L5 H22
pins: 1, 2

## UPA1V122MHD1TO
designator C?, comment 1200uF  (value not drawn)
CAP ALUM 1200UF 20% 35V RADIAL; Part Number: UPA1V122MHD1TO; Manufacturer: Nichicon; TemperatureRange: -55C ~ 105C; Type: Polar; Ripple Current: 1.938A @ 120Hz; Impedance: 22 mOhm; Value: 1200uF; PartId: 23846; Supplier 1: Digi-Key; Supplier Part Number 1: 493-4914-3-ND; ComponentLink1Description: Datasheet; ComponentLink1URL: http://nichicon-us.com/english/products/pdfs/e-upa.pdf; ComponentLink2Description: Digi-Key Listing; ComponentLink2URL: https://www.digikey.com/product-detail/en/nichicon/UPA1V122MHD1TO/493-4914-3-ND/3129919; Tolerance: 20%; Voltage: 35V; Price: 0.5584; Device Package: Radial, Can, 12.5mm
footprint CAP AL TH D12.5 L5 H27
pins: 1, 2

## UPA1V152MHD
designator C?, comment 1500uF  (value not drawn)
CAP ALUM 1500UF 20% 35V RADIAL; Part Number: UPA1V152MHD; Manufacturer: Nichicon; TemperatureRange: -55C ~ 105C; Type: Polar; Ripple Current: 2.312A @ 120Hz; Impedance: 18 mOhm; Value: 1500uF; PartId: 24364; Supplier 1: Digi-Key; Supplier Part Number 1: 493-5435-ND; ComponentLink1Description: Datasheet; ComponentLink1URL: http://nichicon-us.com/english/products/pdfs/e-upa.pdf; ComponentLink2Description: Digi-Key Listing; ComponentLink2URL: https://www.digikey.com/product-detail/en/nichicon/UPA1V152MHD/493-5435-ND/3130440; Tolerance: 20%; Voltage: 35V; Price: 1.56; Device Package: Radial, Can, 12.5mm
footprint CAP AL TH D12.5 L5 H35.5
pins: 1, 2

## UPA1V222MHD1TN
designator C?, comment 2200uF  (value not drawn)
CAP ALUM 2200UF 20% 35V RADIAL; Part Number: UPA1V222MHD1TN; Manufacturer: Nichicon; TemperatureRange: -55C ~ 105C; Type: Polar; Ripple Current: 2.346A @ 120Hz; Impedance: 19 mOhm; Value: 2200uF; PartId: 26843; Supplier 1: Digi-Key; Supplier Part Number 1: 493-4917-3-ND; ComponentLink1Description: Datasheet; ComponentLink1URL: http://nichicon-us.com/english/products/pdfs/e-upa.pdf; ComponentLink2Description: Digi-Key Listing; ComponentLink2URL: https://www.digikey.com/product-detail/en/nichicon/UPA1V222MHD1TN/493-4917-3-ND/3129922; Tolerance: 20%; Voltage: 35V; Price: 1.0285; Device Package: Radial, Can, 16mm
footprint CAP AL TH D16 L7.5 H27
pins: 1, 2

## UPA1V271MPD6TD
designator C?, comment 270uF  (value not drawn)
CAP ALUM 270UF 20% 35V RADIAL; Part Number: UPA1V271MPD6TD; Manufacturer: Nichicon; TemperatureRange: -55C ~ 105C; Type: Polar; Ripple Current: 585mA @ 120Hz; Impedance: 63 mOhm; Value: 270uF; PartId: 24656; Supplier 1: Digi-Key; Supplier Part Number 1: 493-4920-3-ND; ComponentLink1Description: Datasheet; ComponentLink1URL: http://nichicon-us.com/english/products/pdfs/e-upa.pdf; ComponentLink2Description: Digi-Key Listing; ComponentLink2URL: https://www.digikey.com/product-detail/en/nichicon/UPA1V271MPD6TD/493-4920-3-ND/3129925; Tolerance: 20%; Voltage: 35V; Price: 0.2572; Device Package: Radial, Can, 10mm
footprint CAP AL TH D10 L5 H14.5
pins: 1, 2

## UPA1V272MHD
designator C?, comment 2700uF  (value not drawn)
CAP ALUM 2700UF 20% 35V RADIAL; Part Number: UPA1V272MHD; Manufacturer: Nichicon; TemperatureRange: -55C ~ 105C; Type: Polar; Ripple Current: 2.389A @ 120Hz; Impedance: 17 mOhm; Value: 2700uF; PartId: 27218; Supplier 1: Digi-Key; Supplier Part Number 1: 493-5437-ND; ComponentLink1Description: Datasheet; ComponentLink1URL: http://nichicon-us.com/english/products/pdfs/e-upa.pdf; ComponentLink2Description: Digi-Key Listing; ComponentLink2URL: https://www.digikey.com/product-detail/en/nichicon/UPA1V272MHD/493-5437-ND/3130442; Tolerance: 20%; Voltage: 35V; Price: 2.31; Device Package: Radial, Can, 16mm
footprint CAP AL TH D16 L7.5 H33.5
pins: 1, 2

## UPA1V391MPD6TD
designator C?, comment 390uF  (value not drawn)
CAP ALUM 390UF 20% 35V RADIAL; Part Number: UPA1V391MPD6TD; Manufacturer: Nichicon; TemperatureRange: -55C ~ 105C; Type: Polar; Ripple Current: 930mA @ 120Hz; Impedance: 49 mOhm; Value: 390uF; PartId: 25104; Supplier 1: Digi-Key; Supplier Part Number 1: 493-4923-3-ND; ComponentLink1Description: Datasheet; ComponentLink1URL: http://nichicon-us.com/english/products/pdfs/e-upa.pdf; ComponentLink2Description: Digi-Key Listing; ComponentLink2URL: https://www.digikey.com/product-detail/en/nichicon/UPA1V391MPD6TD/493-4923-3-ND/3129928; Tolerance: 20%; Voltage: 35V; Price: 0.2945; Device Package: Radial, Can, 10mm
footprint CAP AL TH D10 L5 H17.5
pins: 1, 2

## UPA1V561MPD1TD
designator C?, comment 560uF  (value not drawn)
CAP ALUM 560UF 20% 35V RADIAL; Part Number: UPA1V561MPD1TD; Manufacturer: Nichicon; TemperatureRange: -55C ~ 105C; Type: Polar; Ripple Current: 1.118A @ 120Hz; Impedance: 35 mOhm; Value: 560uF; PartId: 25826; Supplier 1: Digi-Key; Supplier Part Number 1: 493-4924-3-ND; ComponentLink1Description: Datasheet; ComponentLink1URL: http://nichicon-us.com/english/products/pdfs/e-upa.pdf; ComponentLink2Description: Digi-Key Listing; ComponentLink2URL: https://www.digikey.com/product-detail/en/nichicon/UPA1V561MPD1TD/493-4924-3-ND/3129929; Tolerance: 20%; Voltage: 35V; Price: 0.3447; Device Package: Radial, Can, 10mm
footprint CAP AL TH D10 L5 H22
pins: 1, 2

## UPA1V681MPD1TD
designator C?, comment 680uF  (value not drawn)
CAP ALUM 680UF 20% 35V RADIAL; Part Number: UPA1V681MPD1TD; Manufacturer: Nichicon; TemperatureRange: -55C ~ 105C; Type: Polar; Ripple Current: 1.26A @ 120Hz; Impedance: 33 mOhm; Value: 680uF; PartId: 26026; Supplier 1: Digi-Key; Supplier Part Number 1: 493-4925-3-ND; ComponentLink1Description: Datasheet; ComponentLink1URL: http://nichicon-us.com/english/products/pdfs/e-upa.pdf; ComponentLink2Description: Digi-Key Listing; ComponentLink2URL: https://www.digikey.com/product-detail/en/nichicon/UPA1V681MPD1TD/493-4925-3-ND/3129930; Tolerance: 20%; Voltage: 35V; Price: 0.4017; Device Package: Radial, Can, 10mm
footprint CAP AL TH D10 L5 H30
pins: 1, 2

## UPA1V821MHD1TO
designator C?, comment 820uF  (value not drawn)
CAP ALUM 820UF 20% 35V RADIAL; Part Number: UPA1V821MHD1TO; Manufacturer: Nichicon; TemperatureRange: -55C ~ 105C; Type: Polar; Ripple Current: 1.418A @ 120Hz; Impedance: 29 mOhm; Value: 820uF; PartId: 23200; Supplier 1: Digi-Key; Supplier Part Number 1: 493-4926-3-ND; ComponentLink1Description: Datasheet; ComponentLink1URL: http://nichicon-us.com/english/products/pdfs/e-upa.pdf; ComponentLink2Description: Digi-Key Listing; ComponentLink2URL: https://www.digikey.com/product-detail/en/nichicon/UPA1V821MHD1TO/493-4926-3-ND/3129931; Tolerance: 20%; Voltage: 35V; Price: 0.4627; Device Package: Radial, Can, 12.5mm
footprint CAP AL TH D12.5 L5 H22
pins: 1, 2

## UPJ0J102MHD6TO
designator C?, comment 1000uF  (value not drawn)
CAP ALUM 1000UF 20% 6.3V RADIAL; Part Number: UPJ0J102MHD6TO; Manufacturer: Nichicon; TemperatureRange: -55C ~ 105C; Type: Polar; Ripple Current: 765mA @ 120Hz; Impedance: 130 mOhm; Value: 1000uF; PartId: 22724; Supplier 1: Digi-Key; Supplier Part Number 1: 493-11914-1-ND; ComponentLink1Description: Datasheet; ComponentLink1URL: http://nichicon-us.com/english/products/pdfs/e-upj.pdf; ComponentLink2Description: Digi-Key Listing; ComponentLink2URL: https://www.digikey.com/product-detail/en/nichicon/UPJ0J102MHD6TO/493-11914-1-ND/4319393; Tolerance: 20%; Voltage: 6.3V; Price: 0; Device Package: Radial, Can, 12.5mm
footprint CAP AL TH D12.5 L5 H16.5
pins: 1, 2

## UPJ0J122MHD6TO
designator C?, comment 1200uF  (value not drawn)
CAP ALUM 1200UF 20% 6.3V RADIAL; Part Number: UPJ0J122MHD6TO; Manufacturer: Nichicon; TemperatureRange: -55C ~ 105C; Type: Polar; Ripple Current: 835mA @ 120Hz; Impedance: 120 mOhm; Value: 1200uF; PartId: 22730; Supplier 1: Digi-Key; Supplier Part Number 1: 493-4970-1-ND; ComponentLink1Description: Datasheet; ComponentLink1URL: http://nichicon-us.com/english/products/pdfs/e-upj.pdf; ComponentLink2Description: Digi-Key Listing; ComponentLink2URL: https://www.digikey.com/product-detail/en/nichicon/UPJ0J122MHD6TO/493-4970-1-ND/3129307; Tolerance: 20%; Voltage: 6.3V; Price: 0; Device Package: Radial, Can, 12.5mm
footprint CAP AL TH D12.5 L5 H16.5
pins: 1, 2